# EAGLE library part KEYSWITCH-RGBLED (library Keyboard)
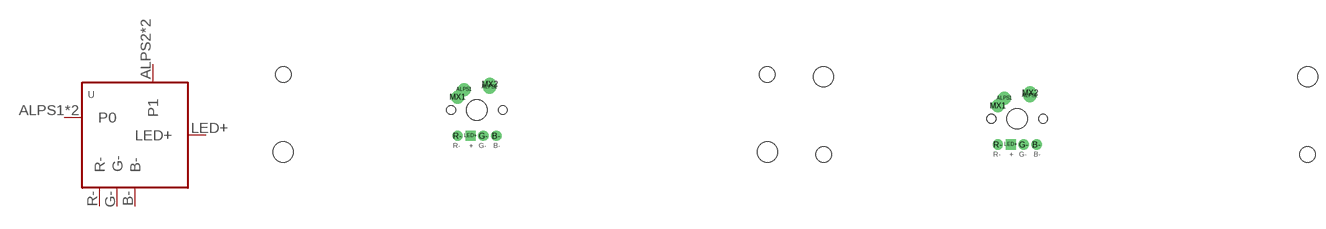
[diagram p0: symbol with the pads of ALPSMX-REVERSED-6U-RGB; footprints ALPSMX-REVERSED-6U-RGB, ALPSMX-REVERSED-6U-RGB-FLIPPED]

Designator prefix -

## KEYSWITCH-RGBLED-ALPSMX--6U-RGB  [ALPSMX-REVERSED-6U-RGB]
ALPS1  P0
ALPS2  P1
B-  B-
G-  G-
LED+  LED+
MX1  P0
MX2  P1
R-  R-

## KEYSWITCH-RGBLED-ALPSMX--6U-RGB-FLIPPED  [ALPSMX-REVERSED-6U-RGB-FLIPPED]
Pads as for ALPSMX-REVERSED-6U-RGB

## KEYSWITCH-RGBLED-ALPSMX--6U-RGB-FLIPPED-ROTATED  [ALPSMX-REVERSED-6U-RGB-FLIPPED-ROTATED]
Pads as for ALPSMX-REVERSED-6U-RGB

## KEYSWITCH-RGBLED-ALPSMX--6U-RGB-ROTATED  [ALPSMX-REVERSED-6U-RGB-ROTATED]
Pads as for ALPSMX-REVERSED-6U-RGB

## KEYSWITCH-RGBLED-ALPSMX-1U-RGB  [ALPSMX-1U-RGB]
Pads as for ALPSMX-REVERSED-6U-RGB

## KEYSWITCH-RGBLED-ALPSMX-2U-RGB  [ALPSMX-2U-RGB]
Pads as for ALPSMX-REVERSED-6U-RGB

## KEYSWITCH-RGBLED-ALPSMX-2U-RGB-FLIPPED  [ALPSMX-2U-RGB-FLIPPED]
Pads as for ALPSMX-REVERSED-6U-RGB

## KEYSWITCH-RGBLED-ALPSMX-2U-RGB-FLIPPED-ROTATED  [ALPSMX-2U-RGB-FLIPPED-ROTATED]
Pads as for ALPSMX-REVERSED-6U-RGB

## KEYSWITCH-RGBLED-ALPSMX-2U-RGB-ROTATED  [ALPSMX-2U-RGB-ROTATED]
Pads as for ALPSMX-REVERSED-6U-RGB

## KEYSWITCH-RGBLED-ALPSMX-4U-RGB  [ALPSMX-4U-RGB]
Pads as for ALPSMX-REVERSED-6U-RGB

## KEYSWITCH-RGBLED-ALPSMX-4U-RGB-FLIPPED  [ALPSMX-4U-RGB-FLIPPED]
Pads as for ALPSMX-REVERSED-6U-RGB

## KEYSWITCH-RGBLED-ALPSMX-4U-RGB-FLIPPED-ROTATED  [ALPSMX-4U-RGB-FLIPPED-ROTATED]
Pads as for ALPSMX-REVERSED-6U-RGB

## KEYSWITCH-RGBLED-ALPSMX-4U-RGB-ROTATED  [ALPSMX-4U-RGB-ROTATED]
Pads as for ALPSMX-REVERSED-6U-RGB

## KEYSWITCH-RGBLED-ALPSMX-6U-RGB  [ALPSMX-6U-RGB]
Pads as for ALPSMX-REVERSED-6U-RGB

## KEYSWITCH-RGBLED-ALPSMX-6U-RGB-FLIPPED  [ALPSMX-6U-RGB-FLIPPED]
Pads as for ALPSMX-REVERSED-6U-RGB

## KEYSWITCH-RGBLED-ALPSMX-6U-RGB-FLIPPED-ROTATED  [ALPSMX-6U-RGB-FLIPPED-ROTATED]
Pads as for ALPSMX-REVERSED-6U-RGB

## KEYSWITCH-RGBLED-ALPSMX-6U-RGB-ROTATED  [ALPSMX-6U-RGB-ROTATED]
Pads as for ALPSMX-REVERSED-6U-RGB

## KEYSWITCH-RGBLED-ALPSMX-6.25U-RGB  [ALPSMX-6.25U-RGB]
Pads as for ALPSMX-REVERSED-6U-RGB

## KEYSWITCH-RGBLED-ALPSMX-6.25U-RGB-FLIPPED  [ALPSMX-6.25U-RGB-FLIPPED]
Pads as for ALPSMX-REVERSED-6U-RGB

## KEYSWITCH-RGBLED-ALPSMX-6.25U-RGB-FLIPPED-ROTATED  [ALPSMX-6.25U-RGB-FLIPPED-ROTATED]
Pads as for ALPSMX-REVERSED-6U-RGB

## KEYSWITCH-RGBLED-ALPSMX-6.25U-RGB-ROTATED  [ALPSMX-6.25U-RGB-ROTATED]
Pads as for ALPSMX-REVERSED-6U-RGB

## KEYSWITCH-RGBLED-ALPSMX-6.5U-RGB  [ALPSMX-6.5U-RGB]
Pads as for ALPSMX-REVERSED-6U-RGB

## KEYSWITCH-RGBLED-ALPSMX-6.5U-RGB-FLIPPED  [ALPSMX-6.5U-RGB-FLIPPED]
Pads as for ALPSMX-REVERSED-6U-RGB

## KEYSWITCH-RGBLED-ALPSMX-6.5U-RGB-FLIPPED-ROTATED  [ALPSMX-6.5U-RGB-FLIPPED-ROTATED]
Pads as for ALPSMX-REVERSED-6U-RGB

## KEYSWITCH-RGBLED-ALPSMX-6.5U-RGB-ROTATED  [ALPSMX-6.5U-RGB-ROTATED]
Pads as for ALPSMX-REVERSED-6U-RGB

## KEYSWITCH-RGBLED-ALPSMX-7U-RGB  [ALPSMX-7U-RGB]
Pads as for ALPSMX-REVERSED-6U-RGB

## KEYSWITCH-RGBLED-ALPSMX-7U-RGB-FLIPPED  [ALPSMX-7U-RGB-FLIPPED]
Pads as for ALPSMX-REVERSED-6U-RGB

## KEYSWITCH-RGBLED-ALPSMX-7U-RGB-FLIPPED-ROTATED  [ALPSMX-7U-RGB-FLIPPED-ROTATED]
Pads as for ALPSMX-REVERSED-6U-RGB

## KEYSWITCH-RGBLED-ALPSMX-7U-RGB-ROTATED  [ALPSMX-7U-RGB-ROTATED]
Pads as for ALPSMX-REVERSED-6U-RGB

## KEYSWITCH-RGBLED-ALPSMXMIR--6U-RGB  [ALPSMXMIR-REVERSED-6U-RGB]
ALPS1  P0
ALPS2  P1
ALPS3  P0
ALPS4  P1
B-  B-
G-  G-
LED+  LED+
MX1  P0
MX2  P1
MX3  P0
MX4  P1
R-  R-

## KEYSWITCH-RGBLED-ALPSMXMIR--6U-RGB-FLIPPED  [ALPSMXMIR-REVERSED-6U-RGB-FLIPPED]
Pads as for ALPSMXMIR-REVERSED-6U-RGB

## KEYSWITCH-RGBLED-ALPSMXMIR--6U-RGB-FLIPPED-ROTATED  [ALPSMXMIR-REVERSED-6U-RGB-FLIPPED-ROTATED]
Pads as for ALPSMXMIR-REVERSED-6U-RGB

## KEYSWITCH-RGBLED-ALPSMXMIR--6U-RGB-ROTATED  [ALPSMXMIR-REVERSED-6U-RGB-ROTATED]
Pads as for ALPSMXMIR-REVERSED-6U-RGB

## KEYSWITCH-RGBLED-ALPSMXMIR-1U-RGB  [ALPSMXMIR-1U-RGB]
Pads as for ALPSMXMIR-REVERSED-6U-RGB

## KEYSWITCH-RGBLED-ALPSMXMIR-2U-RGB  [ALPSMXMIR-2U-RGB]
Pads as for ALPSMXMIR-REVERSED-6U-RGB

## KEYSWITCH-RGBLED-ALPSMXMIR-2U-RGB-FLIPPED  [ALPSMXMIR-2U-RGB-FLIPPED]
Pads as for ALPSMXMIR-REVERSED-6U-RGB

## KEYSWITCH-RGBLED-ALPSMXMIR-2U-RGB-FLIPPED-ROTATED  [ALPSMXMIR-2U-RGB-FLIPPED-ROTATED]
Pads as for ALPSMXMIR-REVERSED-6U-RGB

## KEYSWITCH-RGBLED-ALPSMXMIR-2U-RGB-ROTATED  [ALPSMXMIR-2U-RGB-ROTATED]
Pads as for ALPSMXMIR-REVERSED-6U-RGB

## KEYSWITCH-RGBLED-ALPSMXMIR-4U-RGB  [ALPSMXMIR-4U-RGB]
Pads as for ALPSMXMIR-REVERSED-6U-RGB

## KEYSWITCH-RGBLED-ALPSMXMIR-4U-RGB-FLIPPED  [ALPSMXMIR-4U-RGB-FLIPPED]
Pads as for ALPSMXMIR-REVERSED-6U-RGB

## KEYSWITCH-RGBLED-ALPSMXMIR-4U-RGB-FLIPPED-ROTATED  [ALPSMXMIR-4U-RGB-FLIPPED-ROTATED]
Pads as for ALPSMXMIR-REVERSED-6U-RGB

## KEYSWITCH-RGBLED-ALPSMXMIR-4U-RGB-ROTATED  [ALPSMXMIR-4U-RGB-ROTATED]
Pads as for ALPSMXMIR-REVERSED-6U-RGB

## KEYSWITCH-RGBLED-ALPSMXMIR-6U-RGB  [ALPSMXMIR-6U-RGB]
Pads as for ALPSMXMIR-REVERSED-6U-RGB

## KEYSWITCH-RGBLED-ALPSMXMIR-6U-RGB-FLIPPED  [ALPSMXMIR-6U-RGB-FLIPPED]
Pads as for ALPSMXMIR-REVERSED-6U-RGB

## KEYSWITCH-RGBLED-ALPSMXMIR-6U-RGB-FLIPPED-ROTATED  [ALPSMXMIR-6U-RGB-FLIPPED-ROTATED]
Pads as for ALPSMXMIR-REVERSED-6U-RGB

## KEYSWITCH-RGBLED-ALPSMXMIR-6U-RGB-ROTATED  [ALPSMXMIR-6U-RGB-ROTATED]
Pads as for ALPSMXMIR-REVERSED-6U-RGB

## KEYSWITCH-RGBLED-ALPSMXMIR-6.25U-RGB  [ALPSMXMIR-6.25U-RGB]
Pads as for ALPSMXMIR-REVERSED-6U-RGB

## KEYSWITCH-RGBLED-ALPSMXMIR-6.25U-RGB-FLIPPED  [ALPSMXMIR-6.25U-RGB-FLIPPED]
Pads as for ALPSMXMIR-REVERSED-6U-RGB

## KEYSWITCH-RGBLED-ALPSMXMIR-6.25U-RGB-FLIPPED-ROTATED  [ALPSMXMIR-6.25U-RGB-FLIPPED-ROTATED]
Pads as for ALPSMXMIR-REVERSED-6U-RGB

## KEYSWITCH-RGBLED-ALPSMXMIR-6.25U-RGB-ROTATED  [ALPSMXMIR-6.25U-RGB-ROTATED]
Pads as for ALPSMXMIR-REVERSED-6U-RGB

## KEYSWITCH-RGBLED-ALPSMXMIR-6.5U-RGB  [ALPSMXMIR-6.5U-RGB]
Pads as for ALPSMXMIR-REVERSED-6U-RGB

## KEYSWITCH-RGBLED-ALPSMXMIR-6.5U-RGB-FLIPPED  [ALPSMXMIR-6.5U-RGB-FLIPPED]
Pads as for ALPSMXMIR-REVERSED-6U-RGB

## KEYSWITCH-RGBLED-ALPSMXMIR-6.5U-RGB-FLIPPED-ROTATED  [ALPSMXMIR-6.5U-RGB-FLIPPED-ROTATED]
Pads as for ALPSMXMIR-REVERSED-6U-RGB

## KEYSWITCH-RGBLED-ALPSMXMIR-6.5U-RGB-ROTATED  [ALPSMXMIR-6.5U-RGB-ROTATED]
Pads as for ALPSMXMIR-REVERSED-6U-RGB

## KEYSWITCH-RGBLED-ALPSMXMIR-7U-RGB  [ALPSMXMIR-7U-RGB]
Pads as for ALPSMXMIR-REVERSED-6U-RGB

## KEYSWITCH-RGBLED-ALPSMXMIR-7U-RGB-FLIPPED  [ALPSMXMIR-7U-RGB-FLIPPED]
Pads as for ALPSMXMIR-REVERSED-6U-RGB

## KEYSWITCH-RGBLED-ALPSMXMIR-7U-RGB-FLIPPED-ROTATED  [ALPSMXMIR-7U-RGB-FLIPPED-ROTATED]
Pads as for ALPSMXMIR-REVERSED-6U-RGB

## KEYSWITCH-RGBLED-ALPSMXMIR-7U-RGB-ROTATED  [ALPSMXMIR-7U-RGB-ROTATED]
Pads as for ALPSMXMIR-REVERSED-6U-RGB

## KEYSWITCH-RGBLED-MX--6U-RGB  [MX-REVERSED-6U-RGB]
B-  B-
G-  G-
LED+  LED+
MX1  P0
MX2  P1
R-  R-

## KEYSWITCH-RGBLED-MX--6U-RGB-FLIPPED  [MX-REVERSED-6U-RGB-FLIPPED]
Pads as for MX-REVERSED-6U-RGB

## KEYSWITCH-RGBLED-MX--6U-RGB-FLIPPED-ROTATED  [MX-REVERSED-6U-RGB-FLIPPED-ROTATED]
Pads as for MX-REVERSED-6U-RGB

## KEYSWITCH-RGBLED-MX--6U-RGB-ROTATED  [MX-REVERSED-6U-RGB-ROTATED]
Pads as for MX-REVERSED-6U-RGB

## KEYSWITCH-RGBLED-MX-1U-RGB  [MX-1U-RGB]
Pads as for MX-REVERSED-6U-RGB

## KEYSWITCH-RGBLED-MX-2U-RGB  [MX-2U-RGB]
Pads as for MX-REVERSED-6U-RGB

## KEYSWITCH-RGBLED-MX-2U-RGB-FLIPPED  [MX-2U-RGB-FLIPPED]
Pads as for MX-REVERSED-6U-RGB

## KEYSWITCH-RGBLED-MX-2U-RGB-FLIPPED-ROTATED  [MX-2U-RGB-FLIPPED-ROTATED]
Pads as for MX-REVERSED-6U-RGB

## KEYSWITCH-RGBLED-MX-2U-RGB-ROTATED  [MX-2U-RGB-ROTATED]
Pads as for MX-REVERSED-6U-RGB

## KEYSWITCH-RGBLED-MX-4U-RGB  [MX-4U-RGB]
Pads as for MX-REVERSED-6U-RGB

## KEYSWITCH-RGBLED-MX-4U-RGB-FLIPPED  [MX-4U-RGB-FLIPPED]
Pads as for MX-REVERSED-6U-RGB

## KEYSWITCH-RGBLED-MX-4U-RGB-FLIPPED-ROTATED  [MX-4U-RGB-FLIPPED-ROTATED]
Pads as for MX-REVERSED-6U-RGB

## KEYSWITCH-RGBLED-MX-4U-RGB-ROTATED  [MX-4U-RGB-ROTATED]
Pads as for MX-REVERSED-6U-RGB

## KEYSWITCH-RGBLED-MX-6U-RGB  [MX-6U-RGB]
Pads as for MX-REVERSED-6U-RGB

## KEYSWITCH-RGBLED-MX-6U-RGB-FLIPPED  [MX-6U-RGB-FLIPPED]
Pads as for MX-REVERSED-6U-RGB

## KEYSWITCH-RGBLED-MX-6U-RGB-FLIPPED-ROTATED  [MX-6U-RGB-FLIPPED-ROTATED]
Pads as for MX-REVERSED-6U-RGB

## KEYSWITCH-RGBLED-MX-6U-RGB-ROTATED  [MX-6U-RGB-ROTATED]
Pads as for MX-REVERSED-6U-RGB

## KEYSWITCH-RGBLED-MX-6.25U-RGB  [MX-6.25U-RGB]
Pads as for MX-REVERSED-6U-RGB

## KEYSWITCH-RGBLED-MX-6.25U-RGB-FLIPPED  [MX-6.25U-RGB-FLIPPED]
Pads as for MX-REVERSED-6U-RGB

## KEYSWITCH-RGBLED-MX-6.25U-RGB-FLIPPED-ROTATED  [MX-6.25U-RGB-FLIPPED-ROTATED]
Pads as for MX-REVERSED-6U-RGB

## KEYSWITCH-RGBLED-MX-6.25U-RGB-ROTATED  [MX-6.25U-RGB-ROTATED]
Pads as for MX-REVERSED-6U-RGB

## KEYSWITCH-RGBLED-MX-6.5U-RGB  [MX-6.5U-RGB]
Pads as for MX-REVERSED-6U-RGB

## KEYSWITCH-RGBLED-MX-6.5U-RGB-FLIPPED  [MX-6.5U-RGB-FLIPPED]
Pads as for MX-REVERSED-6U-RGB

## KEYSWITCH-RGBLED-MX-6.5U-RGB-FLIPPED-ROTATED  [MX-6.5U-RGB-FLIPPED-ROTATED]
Pads as for MX-REVERSED-6U-RGB

## KEYSWITCH-RGBLED-MX-6.5U-RGB-ROTATED  [MX-6.5U-RGB-ROTATED]
Pads as for MX-REVERSED-6U-RGB

## KEYSWITCH-RGBLED-MX-7U-RGB  [MX-7U-RGB]
Pads as for MX-REVERSED-6U-RGB

## KEYSWITCH-RGBLED-MX-7U-RGB-FLIPPED  [MX-7U-RGB-FLIPPED]
Pads as for MX-REVERSED-6U-RGB

## KEYSWITCH-RGBLED-MX-7U-RGB-FLIPPED-ROTATED  [MX-7U-RGB-FLIPPED-ROTATED]
Pads as for MX-REVERSED-6U-RGB

## KEYSWITCH-RGBLED-MX-7U-RGB-ROTATED  [MX-7U-RGB-ROTATED]
Pads as for MX-REVERSED-6U-RGB

## Footprint ALPSMX-REVERSED-6U-RGB (pad centres in mm)
Keyboard switch package!
drill 1.3 pad 2.54: ALPS1 -2.5,4; ALPS2 2.5,4.5; MX1 -3.81,2.54; MX2 2.54,5.08
drill 1 pad 2: B- 3.81,-5.08; G- 1.27,-5.08; R- -3.81,-5.08
drill 1 pad 2 square: LED+ -1.27,-5.08
hole 4 at 0,0
hole 1.7 at -5.08,0
hole 1.7 at 5.08,0
hole 3.05 at -38.1,7
hole 3.05 at 57.15,7
hole 4 at -38.1,-8.24
hole 4 at 57.15,-8.24

## Footprint ALPSMX-REVERSED-6U-RGB-FLIPPED (pad centres in mm)
Keyboard switch package!
drill 1.3 pad 2.54: ALPS1 -2.5,4; ALPS2 2.5,4.5; MX1 -3.81,2.54; MX2 2.54,5.08
drill 1 pad 2: B- 3.81,-5.08; G- 1.27,-5.08; R- -3.81,-5.08
drill 1 pad 2 square: LED+ -1.27,-5.08
hole 4 at 0,0
hole 1.7 at -5.08,0
hole 1.7 at 5.08,0
hole 3.05 at -38.1,-7
hole 3.05 at 57.15,-7
hole 4 at -38.1,8.24
hole 4 at 57.15,8.24

## Footprint ALPSMX-REVERSED-6U-RGB-FLIPPED-ROTATED (pad centres in mm)
Keyboard switch package!
drill 1.3 pad 2.54: ALPS1 -2.5,4; ALPS2 2.5,4.5; MX1 -3.81,2.54; MX2 2.54,5.08
drill 1 pad 2: B- 3.81,-5.08; G- 1.27,-5.08; R- -3.81,-5.08
drill 1 pad 2 square: LED+ -1.27,-5.08
hole 4 at 0,0
hole 1.7 at -5.08,0
hole 1.7 at 5.08,0
hole 3.05 at -7,-38.1
hole 3.05 at -7,57.15
hole 4 at 8.24,-38.1
hole 4 at 8.24,57.15

## Footprint ALPSMX-REVERSED-6U-RGB-ROTATED (pad centres in mm)
Keyboard switch package!
drill 1.3 pad 2.54: ALPS1 -2.5,4; ALPS2 2.5,4.5; MX1 -3.81,2.54; MX2 2.54,5.08
drill 1 pad 2: B- 3.81,-5.08; G- 1.27,-5.08; R- -3.81,-5.08
drill 1 pad 2 square: LED+ -1.27,-5.08
hole 4 at 0,0
hole 1.7 at -5.08,0
hole 1.7 at 5.08,0
hole 3.05 at 7,-38.1
hole 3.05 at 7,57.15
hole 4 at -8.24,-38.1
hole 4 at -8.24,57.15

## Footprint ALPSMX-1U-RGB (pad centres in mm)
Keyboard switch package!
drill 1.3 pad 2.54: ALPS1 -2.5,4; ALPS2 2.5,4.5; MX1 -3.81,2.54; MX2 2.54,5.08
drill 1 pad 2: B- 3.81,-5.08; G- 1.27,-5.08; R- -3.81,-5.08
drill 1 pad 2 square: LED+ -1.27,-5.08
hole 4 at 0,0
hole 1.7 at -5.08,0
hole 1.7 at 5.08,0

## Footprint ALPSMX-2U-RGB (pad centres in mm)
Keyboard switch package!
drill 1.3 pad 2.54: ALPS1 -2.5,4; ALPS2 2.5,4.5; MX1 -3.81,2.54; MX2 2.54,5.08
drill 1 pad 2: B- 3.81,-5.08; G- 1.27,-5.08; R- -3.81,-5.08
drill 1 pad 2 square: LED+ -1.27,-5.08
hole 4 at 0,0
hole 1.7 at -5.08,0
hole 1.7 at 5.08,0
hole 3.05 at -11.9,7
hole 3.05 at 11.9,7
hole 4 at -11.9,-8.24
hole 4 at 11.9,-8.24

## Footprint ALPSMX-2U-RGB-FLIPPED (pad centres in mm)
Keyboard switch package!
drill 1.3 pad 2.54: ALPS1 -2.5,4; ALPS2 2.5,4.5; MX1 -3.81,2.54; MX2 2.54,5.08
drill 1 pad 2: B- 3.81,-5.08; G- 1.27,-5.08; R- -3.81,-5.08
drill 1 pad 2 square: LED+ -1.27,-5.08
hole 4 at 0,0
hole 1.7 at -5.08,0
hole 1.7 at 5.08,0
hole 3.05 at -11.9,-7
hole 3.05 at 11.9,-7
hole 4 at -11.9,8.24
hole 4 at 11.9,8.24

## Footprint ALPSMX-2U-RGB-FLIPPED-ROTATED (pad centres in mm)
Keyboard switch package!
drill 1.3 pad 2.54: ALPS1 -2.5,4; ALPS2 2.5,4.5; MX1 -3.81,2.54; MX2 2.54,5.08
drill 1 pad 2: B- 3.81,-5.08; G- 1.27,-5.08; R- -3.81,-5.08
drill 1 pad 2 square: LED+ -1.27,-5.08
hole 4 at 0,0
hole 1.7 at -5.08,0
hole 1.7 at 5.08,0
hole 3.05 at -7,-11.9
hole 3.05 at -7,11.9
hole 4 at 8.24,-11.9
hole 4 at 8.24,11.9

## Footprint ALPSMX-2U-RGB-ROTATED (pad centres in mm)
Keyboard switch package!
drill 1.3 pad 2.54: ALPS1 -2.5,4; ALPS2 2.5,4.5; MX1 -3.81,2.54; MX2 2.54,5.08
drill 1 pad 2: B- 3.81,-5.08; G- 1.27,-5.08; R- -3.81,-5.08
drill 1 pad 2 square: LED+ -1.27,-5.08
hole 4 at 0,0
hole 1.7 at -5.08,0
hole 1.7 at 5.08,0
hole 3.05 at 7,-11.9
hole 3.05 at 7,11.9
hole 4 at -8.24,-11.9
hole 4 at -8.24,11.9

## Footprint ALPSMX-4U-RGB (pad centres in mm)
Keyboard switch package!
drill 1.3 pad 2.54: ALPS1 -2.5,4; ALPS2 2.5,4.5; MX1 -3.81,2.54; MX2 2.54,5.08
drill 1 pad 2: B- 3.81,-5.08; G- 1.27,-5.08; R- -3.81,-5.08
drill 1 pad 2 square: LED+ -1.27,-5.08
hole 4 at 0,0
hole 1.7 at -5.08,0
hole 1.7 at 5.08,0
hole 3.05 at -28.625,7
hole 3.05 at 28.625,7
hole 4 at -28.625,-8.24
hole 4 at 28.625,-8.24

## Footprint ALPSMX-4U-RGB-FLIPPED (pad centres in mm)
Keyboard switch package!
drill 1.3 pad 2.54: ALPS1 -2.5,4; ALPS2 2.5,4.5; MX1 -3.81,2.54; MX2 2.54,5.08
drill 1 pad 2: B- 3.81,-5.08; G- 1.27,-5.08; R- -3.81,-5.08
drill 1 pad 2 square: LED+ -1.27,-5.08
hole 4 at 0,0
hole 1.7 at -5.08,0
hole 1.7 at 5.08,0
hole 3.05 at -28.625,-7
hole 3.05 at 28.625,-7
hole 4 at -28.625,8.24
hole 4 at 28.625,8.24

## Footprint ALPSMX-4U-RGB-FLIPPED-ROTATED (pad centres in mm)
Keyboard switch package!
drill 1.3 pad 2.54: ALPS1 -2.5,4; ALPS2 2.5,4.5; MX1 -3.81,2.54; MX2 2.54,5.08
drill 1 pad 2: B- 3.81,-5.08; G- 1.27,-5.08; R- -3.81,-5.08
drill 1 pad 2 square: LED+ -1.27,-5.08
hole 4 at 0,0
hole 1.7 at -5.08,0
hole 1.7 at 5.08,0
hole 3.05 at -7,-28.625
hole 3.05 at -7,28.625
hole 4 at 8.24,-28.625
hole 4 at 8.24,28.625

## Footprint ALPSMX-4U-RGB-ROTATED (pad centres in mm)
Keyboard switch package!
drill 1.3 pad 2.54: ALPS1 -2.5,4; ALPS2 2.5,4.5; MX1 -3.81,2.54; MX2 2.54,5.08
drill 1 pad 2: B- 3.81,-5.08; G- 1.27,-5.08; R- -3.81,-5.08
drill 1 pad 2 square: LED+ -1.27,-5.08
hole 4 at 0,0
hole 1.7 at -5.08,0
hole 1.7 at 5.08,0
hole 3.05 at 7,-28.625
hole 3.05 at 7,28.625
hole 4 at -8.24,-28.625
hole 4 at -8.24,28.625

## Footprint ALPSMX-6U-RGB (pad centres in mm)
Keyboard switch package!
drill 1.3 pad 2.54: ALPS1 -2.5,4; ALPS2 2.5,4.5; MX1 -3.81,2.54; MX2 2.54,5.08
drill 1 pad 2: B- 3.81,-5.08; G- 1.27,-5.08; R- -3.81,-5.08
drill 1 pad 2 square: LED+ -1.27,-5.08
hole 4 at 0,0
hole 1.7 at -5.08,0
hole 1.7 at 5.08,0
hole 3.05 at -57.15,7
hole 3.05 at 38.1,7
hole 4 at -57.15,-8.24
hole 4 at 38.1,-8.24

## Footprint ALPSMX-6U-RGB-FLIPPED (pad centres in mm)
Keyboard switch package!
drill 1.3 pad 2.54: ALPS1 -2.5,4; ALPS2 2.5,4.5; MX1 -3.81,2.54; MX2 2.54,5.08
drill 1 pad 2: B- 3.81,-5.08; G- 1.27,-5.08; R- -3.81,-5.08
drill 1 pad 2 square: LED+ -1.27,-5.08
hole 4 at 0,0
hole 1.7 at -5.08,0
hole 1.7 at 5.08,0
hole 3.05 at -57.15,-7
hole 3.05 at 38.1,-7
hole 4 at -57.15,8.24
hole 4 at 38.1,8.24

## Footprint ALPSMX-6U-RGB-FLIPPED-ROTATED (pad centres in mm)
Keyboard switch package!
drill 1.3 pad 2.54: ALPS1 -2.5,4; ALPS2 2.5,4.5; MX1 -3.81,2.54; MX2 2.54,5.08
drill 1 pad 2: B- 3.81,-5.08; G- 1.27,-5.08; R- -3.81,-5.08
drill 1 pad 2 square: LED+ -1.27,-5.08
hole 4 at 0,0
hole 1.7 at -5.08,0
hole 1.7 at 5.08,0
hole 3.05 at -7,-57.15
hole 3.05 at -7,38.1
hole 4 at 8.24,-57.15
hole 4 at 8.24,38.1

## Footprint ALPSMX-6U-RGB-ROTATED (pad centres in mm)
Keyboard switch package!
drill 1.3 pad 2.54: ALPS1 -2.5,4; ALPS2 2.5,4.5; MX1 -3.81,2.54; MX2 2.54,5.08
drill 1 pad 2: B- 3.81,-5.08; G- 1.27,-5.08; R- -3.81,-5.08
drill 1 pad 2 square: LED+ -1.27,-5.08
hole 4 at 0,0
hole 1.7 at -5.08,0
hole 1.7 at 5.08,0
hole 3.05 at 7,-57.15
hole 3.05 at 7,38.1
hole 4 at -8.24,-57.15
hole 4 at -8.24,38.1

## Footprint ALPSMX-6.25U-RGB (pad centres in mm)
Keyboard switch package!
drill 1.3 pad 2.54: ALPS1 -2.5,4; ALPS2 2.5,4.5; MX1 -3.81,2.54; MX2 2.54,5.08
drill 1 pad 2: B- 3.81,-5.08; G- 1.27,-5.08; R- -3.81,-5.08
drill 1 pad 2 square: LED+ -1.27,-5.08
hole 4 at 0,0
hole 1.7 at -5.08,0
hole 1.7 at 5.08,0
hole 3.05 at -50,7
hole 3.05 at 50,7
hole 4 at -50,-8.24
hole 4 at 50,-8.24

## Footprint ALPSMX-6.25U-RGB-FLIPPED (pad centres in mm)
Keyboard switch package!
drill 1.3 pad 2.54: ALPS1 -2.5,4; ALPS2 2.5,4.5; MX1 -3.81,2.54; MX2 2.54,5.08
drill 1 pad 2: B- 3.81,-5.08; G- 1.27,-5.08; R- -3.81,-5.08
drill 1 pad 2 square: LED+ -1.27,-5.08
hole 4 at 0,0
hole 1.7 at -5.08,0
hole 1.7 at 5.08,0
hole 3.05 at -50,-7
hole 3.05 at 50,-7
hole 4 at -50,8.24
hole 4 at 50,8.24

## Footprint ALPSMX-6.25U-RGB-FLIPPED-ROTATED (pad centres in mm)
Keyboard switch package!
drill 1.3 pad 2.54: ALPS1 -2.5,4; ALPS2 2.5,4.5; MX1 -3.81,2.54; MX2 2.54,5.08
drill 1 pad 2: B- 3.81,-5.08; G- 1.27,-5.08; R- -3.81,-5.08
drill 1 pad 2 square: LED+ -1.27,-5.08
hole 4 at 0,0
hole 1.7 at -5.08,0
hole 1.7 at 5.08,0
hole 3.05 at -7,-50
hole 3.05 at -7,50
hole 4 at 8.24,-50
hole 4 at 8.24,50

## Footprint ALPSMX-6.25U-RGB-ROTATED (pad centres in mm)
Keyboard switch package!
drill 1.3 pad 2.54: ALPS1 -2.5,4; ALPS2 2.5,4.5; MX1 -3.81,2.54; MX2 2.54,5.08
drill 1 pad 2: B- 3.81,-5.08; G- 1.27,-5.08; R- -3.81,-5.08
drill 1 pad 2 square: LED+ -1.27,-5.08
hole 4 at 0,0
hole 1.7 at -5.08,0
hole 1.7 at 5.08,0
hole 3.05 at 7,-50
hole 3.05 at 7,50
hole 4 at -8.24,-50
hole 4 at -8.24,50

## Footprint ALPSMX-6.5U-RGB (pad centres in mm)
Keyboard switch package!
drill 1.3 pad 2.54: ALPS1 -2.5,4; ALPS2 2.5,4.5; MX1 -3.81,2.54; MX2 2.54,5.08
drill 1 pad 2: B- 3.81,-5.08; G- 1.27,-5.08; R- -3.81,-5.08
drill 1 pad 2 square: LED+ -1.27,-5.08
hole 4 at 0,0
hole 1.7 at -5.08,0
hole 1.7 at 5.08,0
hole 3.05 at -52.5,7
hole 3.05 at 52.5,7
hole 4 at -52.5,-8.24
hole 4 at 52.5,-8.24

## Footprint ALPSMX-6.5U-RGB-FLIPPED (pad centres in mm)
Keyboard switch package!
drill 1.3 pad 2.54: ALPS1 -2.5,4; ALPS2 2.5,4.5; MX1 -3.81,2.54; MX2 2.54,5.08
drill 1 pad 2: B- 3.81,-5.08; G- 1.27,-5.08; R- -3.81,-5.08
drill 1 pad 2 square: LED+ -1.27,-5.08
hole 4 at 0,0
hole 1.7 at -5.08,0
hole 1.7 at 5.08,0
hole 3.05 at -52.5,-7
hole 3.05 at 52.5,-7
hole 4 at -52.5,8.24
hole 4 at 52.5,8.24

## Footprint ALPSMX-6.5U-RGB-FLIPPED-ROTATED (pad centres in mm)
Keyboard switch package!
drill 1.3 pad 2.54: ALPS1 -2.5,4; ALPS2 2.5,4.5; MX1 -3.81,2.54; MX2 2.54,5.08
drill 1 pad 2: B- 3.81,-5.08; G- 1.27,-5.08; R- -3.81,-5.08
drill 1 pad 2 square: LED+ -1.27,-5.08
hole 4 at 0,0
hole 1.7 at -5.08,0
hole 1.7 at 5.08,0
hole 3.05 at -7,-52.5
hole 3.05 at -7,52.5
hole 4 at 8.24,-52.5
hole 4 at 8.24,52.5

## Footprint ALPSMX-6.5U-RGB-ROTATED (pad centres in mm)
Keyboard switch package!
drill 1.3 pad 2.54: ALPS1 -2.5,4; ALPS2 2.5,4.5; MX1 -3.81,2.54; MX2 2.54,5.08
drill 1 pad 2: B- 3.81,-5.08; G- 1.27,-5.08; R- -3.81,-5.08
drill 1 pad 2 square: LED+ -1.27,-5.08
hole 4 at 0,0
hole 1.7 at -5.08,0
hole 1.7 at 5.08,0
hole 3.05 at 7,-52.5
hole 3.05 at 7,52.5
hole 4 at -8.24,-52.5
hole 4 at -8.24,52.5

## Footprint ALPSMX-7U-RGB (pad centres in mm)
Keyboard switch package!
drill 1.3 pad 2.54: ALPS1 -2.5,4; ALPS2 2.5,4.5; MX1 -3.81,2.54; MX2 2.54,5.08
drill 1 pad 2: B- 3.81,-5.08; G- 1.27,-5.08; R- -3.81,-5.08
drill 1 pad 2 square: LED+ -1.27,-5.08
hole 4 at 0,0
hole 1.7 at -5.08,0
hole 1.7 at 5.08,0
hole 3.05 at -57.15,7
hole 3.05 at 57.15,7
hole 4 at -57.15,-8.24
hole 4 at 57.15,-8.24

## Footprint ALPSMX-7U-RGB-FLIPPED (pad centres in mm)
Keyboard switch package!
drill 1.3 pad 2.54: ALPS1 -2.5,4; ALPS2 2.5,4.5; MX1 -3.81,2.54; MX2 2.54,5.08
drill 1 pad 2: B- 3.81,-5.08; G- 1.27,-5.08; R- -3.81,-5.08
drill 1 pad 2 square: LED+ -1.27,-5.08
hole 4 at 0,0
hole 1.7 at -5.08,0
hole 1.7 at 5.08,0
hole 3.05 at -57.15,-7
hole 3.05 at 57.15,-7
hole 4 at -57.15,8.24
hole 4 at 57.15,8.24

## Footprint ALPSMX-7U-RGB-FLIPPED-ROTATED (pad centres in mm)
Keyboard switch package!
drill 1.3 pad 2.54: ALPS1 -2.5,4; ALPS2 2.5,4.5; MX1 -3.81,2.54; MX2 2.54,5.08
drill 1 pad 2: B- 3.81,-5.08; G- 1.27,-5.08; R- -3.81,-5.08
drill 1 pad 2 square: LED+ -1.27,-5.08
hole 4 at 0,0
hole 1.7 at -5.08,0
hole 1.7 at 5.08,0
hole 3.05 at -7,-57.15
hole 3.05 at -7,57.15
hole 4 at 8.24,-57.15
hole 4 at 8.24,57.15

## Footprint ALPSMX-7U-RGB-ROTATED (pad centres in mm)
Keyboard switch package!
drill 1.3 pad 2.54: ALPS1 -2.5,4; ALPS2 2.5,4.5; MX1 -3.81,2.54; MX2 2.54,5.08
drill 1 pad 2: B- 3.81,-5.08; G- 1.27,-5.08; R- -3.81,-5.08
drill 1 pad 2 square: LED+ -1.27,-5.08
hole 4 at 0,0
hole 1.7 at -5.08,0
hole 1.7 at 5.08,0
hole 3.05 at 7,-57.15
hole 3.05 at 7,57.15
hole 4 at -8.24,-57.15
hole 4 at -8.24,57.15

## Footprint ALPSMXMIR-REVERSED-6U-RGB (pad centres in mm)
Keyboard switch package!
drill 1.3 pad 2.54: ALPS1 -2.5,4; ALPS2 2.5,4.5; ALPS3 -2.5,4.5; ALPS4 2.5,4; MX1 -3.81,2.54; MX2 2.54,5.08; MX3 -2.54,5.08; MX4 3.81,2.54
drill 1 pad 2: B- 3.81,-5.08; G- 1.27,-5.08; R- -3.81,-5.08
drill 1 pad 2 square: LED+ -1.27,-5.08
hole 4 at 0,0
hole 1.7 at -5.08,0
hole 1.7 at 5.08,0
hole 3.05 at -38.1,7
hole 3.05 at 57.15,7
hole 4 at -38.1,-8.24
hole 4 at 57.15,-8.24

## Footprint ALPSMXMIR-REVERSED-6U-RGB-FLIPPED (pad centres in mm)
Keyboard switch package!
drill 1.3 pad 2.54: ALPS1 -2.5,4; ALPS2 2.5,4.5; ALPS3 -2.5,4.5; ALPS4 2.5,4; MX1 -3.81,2.54; MX2 2.54,5.08; MX3 -2.54,5.08; MX4 3.81,2.54
drill 1 pad 2: B- 3.81,-5.08; G- 1.27,-5.08; R- -3.81,-5.08
drill 1 pad 2 square: LED+ -1.27,-5.08
hole 4 at 0,0
hole 1.7 at -5.08,0
hole 1.7 at 5.08,0
hole 3.05 at -38.1,-7
hole 3.05 at 57.15,-7
hole 4 at -38.1,8.24
hole 4 at 57.15,8.24

## Footprint ALPSMXMIR-REVERSED-6U-RGB-FLIPPED-ROTATED (pad centres in mm)
Keyboard switch package!
drill 1.3 pad 2.54: ALPS1 -2.5,4; ALPS2 2.5,4.5; ALPS3 -2.5,4.5; ALPS4 2.5,4; MX1 -3.81,2.54; MX2 2.54,5.08; MX3 -2.54,5.08; MX4 3.81,2.54
drill 1 pad 2: B- 3.81,-5.08; G- 1.27,-5.08; R- -3.81,-5.08
drill 1 pad 2 square: LED+ -1.27,-5.08
hole 4 at 0,0
hole 1.7 at -5.08,0
hole 1.7 at 5.08,0
hole 3.05 at -7,-38.1
hole 3.05 at -7,57.15
hole 4 at 8.24,-38.1
hole 4 at 8.24,57.15

## Footprint ALPSMXMIR-REVERSED-6U-RGB-ROTATED (pad centres in mm)
Keyboard switch package!
drill 1.3 pad 2.54: ALPS1 -2.5,4; ALPS2 2.5,4.5; ALPS3 -2.5,4.5; ALPS4 2.5,4; MX1 -3.81,2.54; MX2 2.54,5.08; MX3 -2.54,5.08; MX4 3.81,2.54
drill 1 pad 2: B- 3.81,-5.08; G- 1.27,-5.08; R- -3.81,-5.08
drill 1 pad 2 square: LED+ -1.27,-5.08
hole 4 at 0,0
hole 1.7 at -5.08,0
hole 1.7 at 5.08,0
hole 3.05 at 7,-38.1
hole 3.05 at 7,57.15
hole 4 at -8.24,-38.1
hole 4 at -8.24,57.15

## Footprint ALPSMXMIR-1U-RGB (pad centres in mm)
Keyboard switch package!
drill 1.3 pad 2.54: ALPS1 -2.5,4; ALPS2 2.5,4.5; ALPS3 -2.5,4.5; ALPS4 2.5,4; MX1 -3.81,2.54; MX2 2.54,5.08; MX3 -2.54,5.08; MX4 3.81,2.54
drill 1 pad 2: B- 3.81,-5.08; G- 1.27,-5.08; R- -3.81,-5.08
drill 1 pad 2 square: LED+ -1.27,-5.08
hole 4 at 0,0
hole 1.7 at -5.08,0
hole 1.7 at 5.08,0

## Footprint ALPSMXMIR-2U-RGB (pad centres in mm)
Keyboard switch package!
drill 1.3 pad 2.54: ALPS1 -2.5,4; ALPS2 2.5,4.5; ALPS3 -2.5,4.5; ALPS4 2.5,4; MX1 -3.81,2.54; MX2 2.54,5.08; MX3 -2.54,5.08; MX4 3.81,2.54
drill 1 pad 2: B- 3.81,-5.08; G- 1.27,-5.08; R- -3.81,-5.08
drill 1 pad 2 square: LED+ -1.27,-5.08
hole 4 at 0,0
hole 1.7 at -5.08,0
hole 1.7 at 5.08,0
hole 3.05 at -11.9,7
hole 3.05 at 11.9,7
hole 4 at -11.9,-8.24
hole 4 at 11.9,-8.24

## Footprint ALPSMXMIR-2U-RGB-FLIPPED (pad centres in mm)
Keyboard switch package!
drill 1.3 pad 2.54: ALPS1 -2.5,4; ALPS2 2.5,4.5; ALPS3 -2.5,4.5; ALPS4 2.5,4; MX1 -3.81,2.54; MX2 2.54,5.08; MX3 -2.54,5.08; MX4 3.81,2.54
drill 1 pad 2: B- 3.81,-5.08; G- 1.27,-5.08; R- -3.81,-5.08
drill 1 pad 2 square: LED+ -1.27,-5.08
hole 4 at 0,0
hole 1.7 at -5.08,0
hole 1.7 at 5.08,0
hole 3.05 at -11.9,-7
hole 3.05 at 11.9,-7
hole 4 at -11.9,8.24
hole 4 at 11.9,8.24

## Footprint ALPSMXMIR-2U-RGB-FLIPPED-ROTATED (pad centres in mm)
Keyboard switch package!
drill 1.3 pad 2.54: ALPS1 -2.5,4; ALPS2 2.5,4.5; ALPS3 -2.5,4.5; ALPS4 2.5,4; MX1 -3.81,2.54; MX2 2.54,5.08; MX3 -2.54,5.08; MX4 3.81,2.54
drill 1 pad 2: B- 3.81,-5.08; G- 1.27,-5.08; R- -3.81,-5.08
drill 1 pad 2 square: LED+ -1.27,-5.08
hole 4 at 0,0
hole 1.7 at -5.08,0
hole 1.7 at 5.08,0
hole 3.05 at -7,-11.9
hole 3.05 at -7,11.9
hole 4 at 8.24,-11.9
hole 4 at 8.24,11.9

## Footprint ALPSMXMIR-2U-RGB-ROTATED (pad centres in mm)
Keyboard switch package!
drill 1.3 pad 2.54: ALPS1 -2.5,4; ALPS2 2.5,4.5; ALPS3 -2.5,4.5; ALPS4 2.5,4; MX1 -3.81,2.54; MX2 2.54,5.08; MX3 -2.54,5.08; MX4 3.81,2.54
drill 1 pad 2: B- 3.81,-5.08; G- 1.27,-5.08; R- -3.81,-5.08
drill 1 pad 2 square: LED+ -1.27,-5.08
hole 4 at 0,0
hole 1.7 at -5.08,0
hole 1.7 at 5.08,0
hole 3.05 at 7,-11.9
hole 3.05 at 7,11.9
hole 4 at -8.24,-11.9
hole 4 at -8.24,11.9

## Footprint ALPSMXMIR-4U-RGB (pad centres in mm)
Keyboard switch package!
drill 1.3 pad 2.54: ALPS1 -2.5,4; ALPS2 2.5,4.5; ALPS3 -2.5,4.5; ALPS4 2.5,4; MX1 -3.81,2.54; MX2 2.54,5.08; MX3 -2.54,5.08; MX4 3.81,2.54
drill 1 pad 2: B- 3.81,-5.08; G- 1.27,-5.08; R- -3.81,-5.08
drill 1 pad 2 square: LED+ -1.27,-5.08
hole 4 at 0,0
hole 1.7 at -5.08,0
hole 1.7 at 5.08,0
hole 3.05 at -28.625,7
hole 3.05 at 28.625,7
hole 4 at -28.625,-8.24
hole 4 at 28.625,-8.24

## Footprint ALPSMXMIR-4U-RGB-FLIPPED (pad centres in mm)
Keyboard switch package!
drill 1.3 pad 2.54: ALPS1 -2.5,4; ALPS2 2.5,4.5; ALPS3 -2.5,4.5; ALPS4 2.5,4; MX1 -3.81,2.54; MX2 2.54,5.08; MX3 -2.54,5.08; MX4 3.81,2.54
drill 1 pad 2: B- 3.81,-5.08; G- 1.27,-5.08; R- -3.81,-5.08
drill 1 pad 2 square: LED+ -1.27,-5.08
hole 4 at 0,0
hole 1.7 at -5.08,0
hole 1.7 at 5.08,0
hole 3.05 at -28.625,-7
hole 3.05 at 28.625,-7
hole 4 at -28.625,8.24
hole 4 at 28.625,8.24

## Footprint ALPSMXMIR-4U-RGB-FLIPPED-ROTATED (pad centres in mm)
Keyboard switch package!
drill 1.3 pad 2.54: ALPS1 -2.5,4; ALPS2 2.5,4.5; ALPS3 -2.5,4.5; ALPS4 2.5,4; MX1 -3.81,2.54; MX2 2.54,5.08; MX3 -2.54,5.08; MX4 3.81,2.54
drill 1 pad 2: B- 3.81,-5.08; G- 1.27,-5.08; R- -3.81,-5.08
drill 1 pad 2 square: LED+ -1.27,-5.08
hole 4 at 0,0
hole 1.7 at -5.08,0
hole 1.7 at 5.08,0
hole 3.05 at -7,-28.625
hole 3.05 at -7,28.625
hole 4 at 8.24,-28.625
hole 4 at 8.24,28.625

## Footprint ALPSMXMIR-4U-RGB-ROTATED (pad centres in mm)
Keyboard switch package!
drill 1.3 pad 2.54: ALPS1 -2.5,4; ALPS2 2.5,4.5; ALPS3 -2.5,4.5; ALPS4 2.5,4; MX1 -3.81,2.54; MX2 2.54,5.08; MX3 -2.54,5.08; MX4 3.81,2.54
drill 1 pad 2: B- 3.81,-5.08; G- 1.27,-5.08; R- -3.81,-5.08
drill 1 pad 2 square: LED+ -1.27,-5.08
hole 4 at 0,0
hole 1.7 at -5.08,0
hole 1.7 at 5.08,0
hole 3.05 at 7,-28.625
hole 3.05 at 7,28.625
hole 4 at -8.24,-28.625
hole 4 at -8.24,28.625

## Footprint ALPSMXMIR-6U-RGB (pad centres in mm)
Keyboard switch package!
drill 1.3 pad 2.54: ALPS1 -2.5,4; ALPS2 2.5,4.5; ALPS3 -2.5,4.5; ALPS4 2.5,4; MX1 -3.81,2.54; MX2 2.54,5.08; MX3 -2.54,5.08; MX4 3.81,2.54
drill 1 pad 2: B- 3.81,-5.08; G- 1.27,-5.08; R- -3.81,-5.08
drill 1 pad 2 square: LED+ -1.27,-5.08
hole 4 at 0,0
hole 1.7 at -5.08,0
hole 1.7 at 5.08,0
hole 3.05 at -57.15,7
hole 3.05 at 38.1,7
hole 4 at -57.15,-8.24
hole 4 at 38.1,-8.24

## Footprint ALPSMXMIR-6U-RGB-FLIPPED (pad centres in mm)
Keyboard switch package!
drill 1.3 pad 2.54: ALPS1 -2.5,4; ALPS2 2.5,4.5; ALPS3 -2.5,4.5; ALPS4 2.5,4; MX1 -3.81,2.54; MX2 2.54,5.08; MX3 -2.54,5.08; MX4 3.81,2.54
drill 1 pad 2: B- 3.81,-5.08; G- 1.27,-5.08; R- -3.81,-5.08
drill 1 pad 2 square: LED+ -1.27,-5.08
hole 4 at 0,0
hole 1.7 at -5.08,0
hole 1.7 at 5.08,0
hole 3.05 at -57.15,-7
hole 3.05 at 38.1,-7
hole 4 at -57.15,8.24
hole 4 at 38.1,8.24

## Footprint ALPSMXMIR-6U-RGB-FLIPPED-ROTATED (pad centres in mm)
Keyboard switch package!
drill 1.3 pad 2.54: ALPS1 -2.5,4; ALPS2 2.5,4.5; ALPS3 -2.5,4.5; ALPS4 2.5,4; MX1 -3.81,2.54; MX2 2.54,5.08; MX3 -2.54,5.08; MX4 3.81,2.54
drill 1 pad 2: B- 3.81,-5.08; G- 1.27,-5.08; R- -3.81,-5.08
drill 1 pad 2 square: LED+ -1.27,-5.08
hole 4 at 0,0
hole 1.7 at -5.08,0
hole 1.7 at 5.08,0
hole 3.05 at -7,-57.15
hole 3.05 at -7,38.1
hole 4 at 8.24,-57.15
hole 4 at 8.24,38.1

## Footprint ALPSMXMIR-6U-RGB-ROTATED (pad centres in mm)
Keyboard switch package!
drill 1.3 pad 2.54: ALPS1 -2.5,4; ALPS2 2.5,4.5; ALPS3 -2.5,4.5; ALPS4 2.5,4; MX1 -3.81,2.54; MX2 2.54,5.08; MX3 -2.54,5.08; MX4 3.81,2.54
drill 1 pad 2: B- 3.81,-5.08; G- 1.27,-5.08; R- -3.81,-5.08
drill 1 pad 2 square: LED+ -1.27,-5.08
hole 4 at 0,0
hole 1.7 at -5.08,0
hole 1.7 at 5.08,0
hole 3.05 at 7,-57.15
hole 3.05 at 7,38.1
hole 4 at -8.24,-57.15
hole 4 at -8.24,38.1

## Footprint ALPSMXMIR-6.25U-RGB (pad centres in mm)
Keyboard switch package!
drill 1.3 pad 2.54: ALPS1 -2.5,4; ALPS2 2.5,4.5; ALPS3 -2.5,4.5; ALPS4 2.5,4; MX1 -3.81,2.54; MX2 2.54,5.08; MX3 -2.54,5.08; MX4 3.81,2.54
drill 1 pad 2: B- 3.81,-5.08; G- 1.27,-5.08; R- -3.81,-5.08
drill 1 pad 2 square: LED+ -1.27,-5.08
hole 4 at 0,0
hole 1.7 at -5.08,0
hole 1.7 at 5.08,0
hole 3.05 at -50,7
hole 3.05 at 50,7
hole 4 at -50,-8.24
hole 4 at 50,-8.24

## Footprint ALPSMXMIR-6.25U-RGB-FLIPPED (pad centres in mm)
Keyboard switch package!
drill 1.3 pad 2.54: ALPS1 -2.5,4; ALPS2 2.5,4.5; ALPS3 -2.5,4.5; ALPS4 2.5,4; MX1 -3.81,2.54; MX2 2.54,5.08; MX3 -2.54,5.08; MX4 3.81,2.54
drill 1 pad 2: B- 3.81,-5.08; G- 1.27,-5.08; R- -3.81,-5.08
drill 1 pad 2 square: LED+ -1.27,-5.08
hole 4 at 0,0
hole 1.7 at -5.08,0
hole 1.7 at 5.08,0
hole 3.05 at -50,-7
hole 3.05 at 50,-7
hole 4 at -50,8.24
hole 4 at 50,8.24

## Footprint ALPSMXMIR-6.25U-RGB-FLIPPED-ROTATED (pad centres in mm)
Keyboard switch package!
drill 1.3 pad 2.54: ALPS1 -2.5,4; ALPS2 2.5,4.5; ALPS3 -2.5,4.5; ALPS4 2.5,4; MX1 -3.81,2.54; MX2 2.54,5.08; MX3 -2.54,5.08; MX4 3.81,2.54
drill 1 pad 2: B- 3.81,-5.08; G- 1.27,-5.08; R- -3.81,-5.08
drill 1 pad 2 square: LED+ -1.27,-5.08
hole 4 at 0,0
hole 1.7 at -5.08,0
hole 1.7 at 5.08,0
hole 3.05 at -7,-50
hole 3.05 at -7,50
hole 4 at 8.24,-50
hole 4 at 8.24,50

## Footprint ALPSMXMIR-6.25U-RGB-ROTATED (pad centres in mm)
Keyboard switch package!
drill 1.3 pad 2.54: ALPS1 -2.5,4; ALPS2 2.5,4.5; ALPS3 -2.5,4.5; ALPS4 2.5,4; MX1 -3.81,2.54; MX2 2.54,5.08; MX3 -2.54,5.08; MX4 3.81,2.54
drill 1 pad 2: B- 3.81,-5.08; G- 1.27,-5.08; R- -3.81,-5.08
drill 1 pad 2 square: LED+ -1.27,-5.08
hole 4 at 0,0
hole 1.7 at -5.08,0
hole 1.7 at 5.08,0
hole 3.05 at 7,-50
hole 3.05 at 7,50
hole 4 at -8.24,-50
hole 4 at -8.24,50

## Footprint ALPSMXMIR-6.5U-RGB (pad centres in mm)
Keyboard switch package!
drill 1.3 pad 2.54: ALPS1 -2.5,4; ALPS2 2.5,4.5; ALPS3 -2.5,4.5; ALPS4 2.5,4; MX1 -3.81,2.54; MX2 2.54,5.08; MX3 -2.54,5.08; MX4 3.81,2.54
drill 1 pad 2: B- 3.81,-5.08; G- 1.27,-5.08; R- -3.81,-5.08
drill 1 pad 2 square: LED+ -1.27,-5.08
hole 4 at 0,0
hole 1.7 at -5.08,0
hole 1.7 at 5.08,0
hole 3.05 at -52.5,7
hole 3.05 at 52.5,7
hole 4 at -52.5,-8.24
hole 4 at 52.5,-8.24

## Footprint ALPSMXMIR-6.5U-RGB-FLIPPED (pad centres in mm)
Keyboard switch package!
drill 1.3 pad 2.54: ALPS1 -2.5,4; ALPS2 2.5,4.5; ALPS3 -2.5,4.5; ALPS4 2.5,4; MX1 -3.81,2.54; MX2 2.54,5.08; MX3 -2.54,5.08; MX4 3.81,2.54
drill 1 pad 2: B- 3.81,-5.08; G- 1.27,-5.08; R- -3.81,-5.08
drill 1 pad 2 square: LED+ -1.27,-5.08
hole 4 at 0,0
hole 1.7 at -5.08,0
hole 1.7 at 5.08,0
hole 3.05 at -52.5,-7
hole 3.05 at 52.5,-7
hole 4 at -52.5,8.24
hole 4 at 52.5,8.24

## Footprint ALPSMXMIR-6.5U-RGB-FLIPPED-ROTATED (pad centres in mm)
Keyboard switch package!
drill 1.3 pad 2.54: ALPS1 -2.5,4; ALPS2 2.5,4.5; ALPS3 -2.5,4.5; ALPS4 2.5,4; MX1 -3.81,2.54; MX2 2.54,5.08; MX3 -2.54,5.08; MX4 3.81,2.54
drill 1 pad 2: B- 3.81,-5.08; G- 1.27,-5.08; R- -3.81,-5.08
drill 1 pad 2 square: LED+ -1.27,-5.08
hole 4 at 0,0
hole 1.7 at -5.08,0
hole 1.7 at 5.08,0
hole 3.05 at -7,-52.5
hole 3.05 at -7,52.5
hole 4 at 8.24,-52.5
hole 4 at 8.24,52.5

## Footprint ALPSMXMIR-6.5U-RGB-ROTATED (pad centres in mm)
Keyboard switch package!
drill 1.3 pad 2.54: ALPS1 -2.5,4; ALPS2 2.5,4.5; ALPS3 -2.5,4.5; ALPS4 2.5,4; MX1 -3.81,2.54; MX2 2.54,5.08; MX3 -2.54,5.08; MX4 3.81,2.54
drill 1 pad 2: B- 3.81,-5.08; G- 1.27,-5.08; R- -3.81,-5.08
drill 1 pad 2 square: LED+ -1.27,-5.08
hole 4 at 0,0
hole 1.7 at -5.08,0
hole 1.7 at 5.08,0
hole 3.05 at 7,-52.5
hole 3.05 at 7,52.5
hole 4 at -8.24,-52.5
hole 4 at -8.24,52.5

## Footprint ALPSMXMIR-7U-RGB (pad centres in mm)
Keyboard switch package!
drill 1.3 pad 2.54: ALPS1 -2.5,4; ALPS2 2.5,4.5; ALPS3 -2.5,4.5; ALPS4 2.5,4; MX1 -3.81,2.54; MX2 2.54,5.08; MX3 -2.54,5.08; MX4 3.81,2.54
drill 1 pad 2: B- 3.81,-5.08; G- 1.27,-5.08; R- -3.81,-5.08
drill 1 pad 2 square: LED+ -1.27,-5.08
hole 4 at 0,0
hole 1.7 at -5.08,0
hole 1.7 at 5.08,0
hole 3.05 at -57.15,7
hole 3.05 at 57.15,7
hole 4 at -57.15,-8.24
hole 4 at 57.15,-8.24

## Footprint ALPSMXMIR-7U-RGB-FLIPPED (pad centres in mm)
Keyboard switch package!
drill 1.3 pad 2.54: ALPS1 -2.5,4; ALPS2 2.5,4.5; ALPS3 -2.5,4.5; ALPS4 2.5,4; MX1 -3.81,2.54; MX2 2.54,5.08; MX3 -2.54,5.08; MX4 3.81,2.54
drill 1 pad 2: B- 3.81,-5.08; G- 1.27,-5.08; R- -3.81,-5.08
drill 1 pad 2 square: LED+ -1.27,-5.08
hole 4 at 0,0
hole 1.7 at -5.08,0
hole 1.7 at 5.08,0
hole 3.05 at -57.15,-7
hole 3.05 at 57.15,-7
hole 4 at -57.15,8.24
hole 4 at 57.15,8.24

## Footprint ALPSMXMIR-7U-RGB-FLIPPED-ROTATED (pad centres in mm)
Keyboard switch package!
drill 1.3 pad 2.54: ALPS1 -2.5,4; ALPS2 2.5,4.5; ALPS3 -2.5,4.5; ALPS4 2.5,4; MX1 -3.81,2.54; MX2 2.54,5.08; MX3 -2.54,5.08; MX4 3.81,2.54
drill 1 pad 2: B- 3.81,-5.08; G- 1.27,-5.08; R- -3.81,-5.08
drill 1 pad 2 square: LED+ -1.27,-5.08
hole 4 at 0,0
hole 1.7 at -5.08,0
hole 1.7 at 5.08,0
hole 3.05 at -7,-57.15
hole 3.05 at -7,57.15
hole 4 at 8.24,-57.15
hole 4 at 8.24,57.15

## Footprint ALPSMXMIR-7U-RGB-ROTATED (pad centres in mm)
Keyboard switch package!
drill 1.3 pad 2.54: ALPS1 -2.5,4; ALPS2 2.5,4.5; ALPS3 -2.5,4.5; ALPS4 2.5,4; MX1 -3.81,2.54; MX2 2.54,5.08; MX3 -2.54,5.08; MX4 3.81,2.54
drill 1 pad 2: B- 3.81,-5.08; G- 1.27,-5.08; R- -3.81,-5.08
drill 1 pad 2 square: LED+ -1.27,-5.08
hole 4 at 0,0
hole 1.7 at -5.08,0
hole 1.7 at 5.08,0
hole 3.05 at 7,-57.15
hole 3.05 at 7,57.15
hole 4 at -8.24,-57.15
hole 4 at -8.24,57.15

## Footprint MX-REVERSED-6U-RGB (pad centres in mm)
Keyboard switch package!
drill 1 pad 2: B- 3.81,-5.08; G- 1.27,-5.08; R- -3.81,-5.08
drill 1 pad 2 square: LED+ -1.27,-5.08
drill 1.3 pad 2.54: MX1 -3.81,2.54; MX2 2.54,5.08
hole 4 at 0,0
hole 1.7 at -5.08,0
hole 1.7 at 5.08,0
hole 3.05 at -38.1,7
hole 3.05 at 57.15,7
hole 4 at -38.1,-8.24
hole 4 at 57.15,-8.24

## Footprint MX-REVERSED-6U-RGB-FLIPPED (pad centres in mm)
Keyboard switch package!
drill 1 pad 2: B- 3.81,-5.08; G- 1.27,-5.08; R- -3.81,-5.08
drill 1 pad 2 square: LED+ -1.27,-5.08
drill 1.3 pad 2.54: MX1 -3.81,2.54; MX2 2.54,5.08
hole 4 at 0,0
hole 1.7 at -5.08,0
hole 1.7 at 5.08,0
hole 3.05 at -38.1,-7
hole 3.05 at 57.15,-7
hole 4 at -38.1,8.24
hole 4 at 57.15,8.24

## Footprint MX-REVERSED-6U-RGB-FLIPPED-ROTATED (pad centres in mm)
Keyboard switch package!
drill 1 pad 2: B- 3.81,-5.08; G- 1.27,-5.08; R- -3.81,-5.08
drill 1 pad 2 square: LED+ -1.27,-5.08
drill 1.3 pad 2.54: MX1 -3.81,2.54; MX2 2.54,5.08
hole 4 at 0,0
hole 1.7 at -5.08,0
hole 1.7 at 5.08,0
hole 3.05 at -7,-38.1
hole 3.05 at -7,57.15
hole 4 at 8.24,-38.1
hole 4 at 8.24,57.15

## Footprint MX-REVERSED-6U-RGB-ROTATED (pad centres in mm)
Keyboard switch package!
drill 1 pad 2: B- 3.81,-5.08; G- 1.27,-5.08; R- -3.81,-5.08
drill 1 pad 2 square: LED+ -1.27,-5.08
drill 1.3 pad 2.54: MX1 -3.81,2.54; MX2 2.54,5.08
hole 4 at 0,0
hole 1.7 at -5.08,0
hole 1.7 at 5.08,0
hole 3.05 at 7,-38.1
hole 3.05 at 7,57.15
hole 4 at -8.24,-38.1
hole 4 at -8.24,57.15

## Footprint MX-1U-RGB (pad centres in mm)
Keyboard switch package!
drill 1 pad 2: B- 3.81,-5.08; G- 1.27,-5.08; R- -3.81,-5.08
drill 1 pad 2 square: LED+ -1.27,-5.08
drill 1.3 pad 2.54: MX1 -3.81,2.54; MX2 2.54,5.08
hole 4 at 0,0
hole 1.7 at -5.08,0
hole 1.7 at 5.08,0

## Footprint MX-2U-RGB (pad centres in mm)
Keyboard switch package!
drill 1 pad 2: B- 3.81,-5.08; G- 1.27,-5.08; R- -3.81,-5.08
drill 1 pad 2 square: LED+ -1.27,-5.08
drill 1.3 pad 2.54: MX1 -3.81,2.54; MX2 2.54,5.08
hole 4 at 0,0
hole 1.7 at -5.08,0
hole 1.7 at 5.08,0
hole 3.05 at -11.9,7
hole 3.05 at 11.9,7
hole 4 at -11.9,-8.24
hole 4 at 11.9,-8.24

## Footprint MX-2U-RGB-FLIPPED (pad centres in mm)
Keyboard switch package!
drill 1 pad 2: B- 3.81,-5.08; G- 1.27,-5.08; R- -3.81,-5.08
drill 1 pad 2 square: LED+ -1.27,-5.08
drill 1.3 pad 2.54: MX1 -3.81,2.54; MX2 2.54,5.08
hole 4 at 0,0
hole 1.7 at -5.08,0
hole 1.7 at 5.08,0
hole 3.05 at -11.9,-7
hole 3.05 at 11.9,-7
hole 4 at -11.9,8.24
hole 4 at 11.9,8.24

## Footprint MX-2U-RGB-FLIPPED-ROTATED (pad centres in mm)
Keyboard switch package!
drill 1 pad 2: B- 3.81,-5.08; G- 1.27,-5.08; R- -3.81,-5.08
drill 1 pad 2 square: LED+ -1.27,-5.08
drill 1.3 pad 2.54: MX1 -3.81,2.54; MX2 2.54,5.08
hole 4 at 0,0
hole 1.7 at -5.08,0
hole 1.7 at 5.08,0
hole 3.05 at -7,-11.9
hole 3.05 at -7,11.9
hole 4 at 8.24,-11.9
hole 4 at 8.24,11.9

## Footprint MX-2U-RGB-ROTATED (pad centres in mm)
Keyboard switch package!
drill 1 pad 2: B- 3.81,-5.08; G- 1.27,-5.08; R- -3.81,-5.08
drill 1 pad 2 square: LED+ -1.27,-5.08
drill 1.3 pad 2.54: MX1 -3.81,2.54; MX2 2.54,5.08
hole 4 at 0,0
hole 1.7 at -5.08,0
hole 1.7 at 5.08,0
hole 3.05 at 7,-11.9
hole 3.05 at 7,11.9
hole 4 at -8.24,-11.9
hole 4 at -8.24,11.9

## Footprint MX-4U-RGB (pad centres in mm)
Keyboard switch package!
drill 1 pad 2: B- 3.81,-5.08; G- 1.27,-5.08; R- -3.81,-5.08
drill 1 pad 2 square: LED+ -1.27,-5.08
drill 1.3 pad 2.54: MX1 -3.81,2.54; MX2 2.54,5.08
hole 4 at 0,0
hole 1.7 at -5.08,0
hole 1.7 at 5.08,0
hole 3.05 at -28.625,7
hole 3.05 at 28.625,7
hole 4 at -28.625,-8.24
hole 4 at 28.625,-8.24

## Footprint MX-4U-RGB-FLIPPED (pad centres in mm)
Keyboard switch package!
drill 1 pad 2: B- 3.81,-5.08; G- 1.27,-5.08; R- -3.81,-5.08
drill 1 pad 2 square: LED+ -1.27,-5.08
drill 1.3 pad 2.54: MX1 -3.81,2.54; MX2 2.54,5.08
hole 4 at 0,0
hole 1.7 at -5.08,0
hole 1.7 at 5.08,0
hole 3.05 at -28.625,-7
hole 3.05 at 28.625,-7
hole 4 at -28.625,8.24
hole 4 at 28.625,8.24

## Footprint MX-4U-RGB-FLIPPED-ROTATED (pad centres in mm)
Keyboard switch package!
drill 1 pad 2: B- 3.81,-5.08; G- 1.27,-5.08; R- -3.81,-5.08
drill 1 pad 2 square: LED+ -1.27,-5.08
drill 1.3 pad 2.54: MX1 -3.81,2.54; MX2 2.54,5.08
hole 4 at 0,0
hole 1.7 at -5.08,0
hole 1.7 at 5.08,0
hole 3.05 at -7,-28.625
hole 3.05 at -7,28.625
hole 4 at 8.24,-28.625
hole 4 at 8.24,28.625

## Footprint MX-4U-RGB-ROTATED (pad centres in mm)
Keyboard switch package!
drill 1 pad 2: B- 3.81,-5.08; G- 1.27,-5.08; R- -3.81,-5.08
drill 1 pad 2 square: LED+ -1.27,-5.08
drill 1.3 pad 2.54: MX1 -3.81,2.54; MX2 2.54,5.08
hole 4 at 0,0
hole 1.7 at -5.08,0
hole 1.7 at 5.08,0
hole 3.05 at 7,-28.625
hole 3.05 at 7,28.625
hole 4 at -8.24,-28.625
hole 4 at -8.24,28.625

## Footprint MX-6U-RGB (pad centres in mm)
Keyboard switch package!
drill 1 pad 2: B- 3.81,-5.08; G- 1.27,-5.08; R- -3.81,-5.08
drill 1 pad 2 square: LED+ -1.27,-5.08
drill 1.3 pad 2.54: MX1 -3.81,2.54; MX2 2.54,5.08
hole 4 at 0,0
hole 1.7 at -5.08,0
hole 1.7 at 5.08,0
hole 3.05 at -57.15,7
hole 3.05 at 38.1,7
hole 4 at -57.15,-8.24
hole 4 at 38.1,-8.24

## Footprint MX-6U-RGB-FLIPPED (pad centres in mm)
Keyboard switch package!
drill 1 pad 2: B- 3.81,-5.08; G- 1.27,-5.08; R- -3.81,-5.08
drill 1 pad 2 square: LED+ -1.27,-5.08
drill 1.3 pad 2.54: MX1 -3.81,2.54; MX2 2.54,5.08
hole 4 at 0,0
hole 1.7 at -5.08,0
hole 1.7 at 5.08,0
hole 3.05 at -57.15,-7
hole 3.05 at 38.1,-7
hole 4 at -57.15,8.24
hole 4 at 38.1,8.24

## Footprint MX-6U-RGB-FLIPPED-ROTATED (pad centres in mm)
Keyboard switch package!
drill 1 pad 2: B- 3.81,-5.08; G- 1.27,-5.08; R- -3.81,-5.08
drill 1 pad 2 square: LED+ -1.27,-5.08
drill 1.3 pad 2.54: MX1 -3.81,2.54; MX2 2.54,5.08
hole 4 at 0,0
hole 1.7 at -5.08,0
hole 1.7 at 5.08,0
hole 3.05 at -7,-57.15
hole 3.05 at -7,38.1
hole 4 at 8.24,-57.15
hole 4 at 8.24,38.1

## Footprint MX-6U-RGB-ROTATED (pad centres in mm)
Keyboard switch package!
drill 1 pad 2: B- 3.81,-5.08; G- 1.27,-5.08; R- -3.81,-5.08
drill 1 pad 2 square: LED+ -1.27,-5.08
drill 1.3 pad 2.54: MX1 -3.81,2.54; MX2 2.54,5.08
hole 4 at 0,0
hole 1.7 at -5.08,0
hole 1.7 at 5.08,0
hole 3.05 at 7,-57.15
hole 3.05 at 7,38.1
hole 4 at -8.24,-57.15
hole 4 at -8.24,38.1

## Footprint MX-6.25U-RGB (pad centres in mm)
Keyboard switch package!
drill 1 pad 2: B- 3.81,-5.08; G- 1.27,-5.08; R- -3.81,-5.08
drill 1 pad 2 square: LED+ -1.27,-5.08
drill 1.3 pad 2.54: MX1 -3.81,2.54; MX2 2.54,5.08
hole 4 at 0,0
hole 1.7 at -5.08,0
hole 1.7 at 5.08,0
hole 3.05 at -50,7
hole 3.05 at 50,7
hole 4 at -50,-8.24
hole 4 at 50,-8.24

## Footprint MX-6.25U-RGB-FLIPPED (pad centres in mm)
Keyboard switch package!
drill 1 pad 2: B- 3.81,-5.08; G- 1.27,-5.08; R- -3.81,-5.08
drill 1 pad 2 square: LED+ -1.27,-5.08
drill 1.3 pad 2.54: MX1 -3.81,2.54; MX2 2.54,5.08
hole 4 at 0,0
hole 1.7 at -5.08,0
hole 1.7 at 5.08,0
hole 3.05 at -50,-7
hole 3.05 at 50,-7
hole 4 at -50,8.24
hole 4 at 50,8.24

## Footprint MX-6.25U-RGB-FLIPPED-ROTATED (pad centres in mm)
Keyboard switch package!
drill 1 pad 2: B- 3.81,-5.08; G- 1.27,-5.08; R- -3.81,-5.08
drill 1 pad 2 square: LED+ -1.27,-5.08
drill 1.3 pad 2.54: MX1 -3.81,2.54; MX2 2.54,5.08
hole 4 at 0,0
hole 1.7 at -5.08,0
hole 1.7 at 5.08,0
hole 3.05 at -7,-50
hole 3.05 at -7,50
hole 4 at 8.24,-50
hole 4 at 8.24,50

## Footprint MX-6.25U-RGB-ROTATED (pad centres in mm)
Keyboard switch package!
drill 1 pad 2: B- 3.81,-5.08; G- 1.27,-5.08; R- -3.81,-5.08
drill 1 pad 2 square: LED+ -1.27,-5.08
drill 1.3 pad 2.54: MX1 -3.81,2.54; MX2 2.54,5.08
hole 4 at 0,0
hole 1.7 at -5.08,0
hole 1.7 at 5.08,0
hole 3.05 at 7,-50
hole 3.05 at 7,50
hole 4 at -8.24,-50
hole 4 at -8.24,50

## Footprint MX-6.5U-RGB (pad centres in mm)
Keyboard switch package!
drill 1 pad 2: B- 3.81,-5.08; G- 1.27,-5.08; R- -3.81,-5.08
drill 1 pad 2 square: LED+ -1.27,-5.08
drill 1.3 pad 2.54: MX1 -3.81,2.54; MX2 2.54,5.08
hole 4 at 0,0
hole 1.7 at -5.08,0
hole 1.7 at 5.08,0
hole 3.05 at -52.5,7
hole 3.05 at 52.5,7
hole 4 at -52.5,-8.24
hole 4 at 52.5,-8.24

## Footprint MX-6.5U-RGB-FLIPPED (pad centres in mm)
Keyboard switch package!
drill 1 pad 2: B- 3.81,-5.08; G- 1.27,-5.08; R- -3.81,-5.08
drill 1 pad 2 square: LED+ -1.27,-5.08
drill 1.3 pad 2.54: MX1 -3.81,2.54; MX2 2.54,5.08
hole 4 at 0,0
hole 1.7 at -5.08,0
hole 1.7 at 5.08,0
hole 3.05 at -52.5,-7
hole 3.05 at 52.5,-7
hole 4 at -52.5,8.24
hole 4 at 52.5,8.24

## Footprint MX-6.5U-RGB-FLIPPED-ROTATED (pad centres in mm)
Keyboard switch package!
drill 1 pad 2: B- 3.81,-5.08; G- 1.27,-5.08; R- -3.81,-5.08
drill 1 pad 2 square: LED+ -1.27,-5.08
drill 1.3 pad 2.54: MX1 -3.81,2.54; MX2 2.54,5.08
hole 4 at 0,0
hole 1.7 at -5.08,0
hole 1.7 at 5.08,0
hole 3.05 at -7,-52.5
hole 3.05 at -7,52.5
hole 4 at 8.24,-52.5
hole 4 at 8.24,52.5

## Footprint MX-6.5U-RGB-ROTATED (pad centres in mm)
Keyboard switch package!
drill 1 pad 2: B- 3.81,-5.08; G- 1.27,-5.08; R- -3.81,-5.08
drill 1 pad 2 square: LED+ -1.27,-5.08
drill 1.3 pad 2.54: MX1 -3.81,2.54; MX2 2.54,5.08
hole 4 at 0,0
hole 1.7 at -5.08,0
hole 1.7 at 5.08,0
hole 3.05 at 7,-52.5
hole 3.05 at 7,52.5
hole 4 at -8.24,-52.5
hole 4 at -8.24,52.5

## Footprint MX-7U-RGB (pad centres in mm)
Keyboard switch package!
drill 1 pad 2: B- 3.81,-5.08; G- 1.27,-5.08; R- -3.81,-5.08
drill 1 pad 2 square: LED+ -1.27,-5.08
drill 1.3 pad 2.54: MX1 -3.81,2.54; MX2 2.54,5.08
hole 4 at 0,0
hole 1.7 at -5.08,0
hole 1.7 at 5.08,0
hole 3.05 at -57.15,7
hole 3.05 at 57.15,7
hole 4 at -57.15,-8.24
hole 4 at 57.15,-8.24

## Footprint MX-7U-RGB-FLIPPED (pad centres in mm)
Keyboard switch package!
drill 1 pad 2: B- 3.81,-5.08; G- 1.27,-5.08; R- -3.81,-5.08
drill 1 pad 2 square: LED+ -1.27,-5.08
drill 1.3 pad 2.54: MX1 -3.81,2.54; MX2 2.54,5.08
hole 4 at 0,0
hole 1.7 at -5.08,0
hole 1.7 at 5.08,0
hole 3.05 at -57.15,-7
hole 3.05 at 57.15,-7
hole 4 at -57.15,8.24
hole 4 at 57.15,8.24

## Footprint MX-7U-RGB-FLIPPED-ROTATED (pad centres in mm)
Keyboard switch package!
drill 1 pad 2: B- 3.81,-5.08; G- 1.27,-5.08; R- -3.81,-5.08
drill 1 pad 2 square: LED+ -1.27,-5.08
drill 1.3 pad 2.54: MX1 -3.81,2.54; MX2 2.54,5.08
hole 4 at 0,0
hole 1.7 at -5.08,0
hole 1.7 at 5.08,0
hole 3.05 at -7,-57.15
hole 3.05 at -7,57.15
hole 4 at 8.24,-57.15
hole 4 at 8.24,57.15

## Footprint MX-7U-RGB-ROTATED (pad centres in mm)
Keyboard switch package!
drill 1 pad 2: B- 3.81,-5.08; G- 1.27,-5.08; R- -3.81,-5.08
drill 1 pad 2 square: LED+ -1.27,-5.08
drill 1.3 pad 2.54: MX1 -3.81,2.54; MX2 2.54,5.08
hole 4 at 0,0
hole 1.7 at -5.08,0
hole 1.7 at 5.08,0
hole 3.05 at 7,-57.15
hole 3.05 at 7,57.15
hole 4 at -8.24,-57.15
hole 4 at -8.24,57.15